# EAGLE library part 1PEEK09 (library con-odu_med)
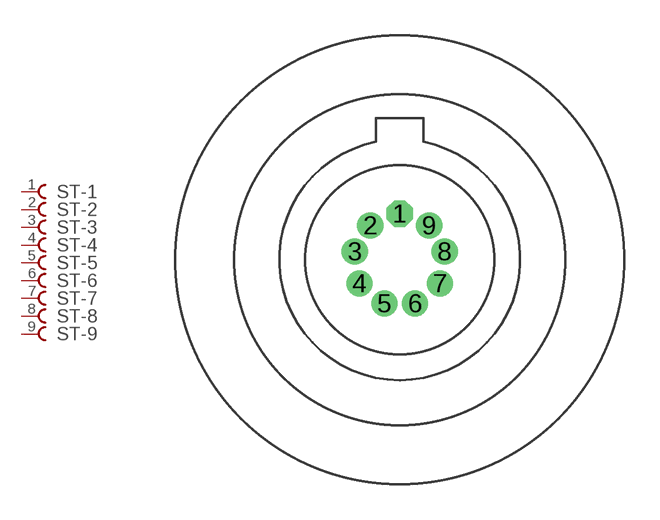
[diagram p3: symbol with the pads of 1PEEK09; footprint 1PEEK09]

Designator prefix ST; gates -1=KONTAKT -2=KONTAKT -3=KONTAKT -4=KONTAKT -5=KONTAKT -6=KONTAKT -7=KONTAKT -8=KONTAKT -9=KONTAKT

## 1PEEK09  [1PEEK09]
1  -1:P$1  pas
2  -2:P$1  pas
3  -3:P$1  pas
4  -4:P$1  pas
5  -5:P$1  pas
6  -6:P$1  pas
7  -7:P$1  pas
8  -8:P$1  pas
9  -9:P$1  pas

## Footprint 1PEEK09 (pad centres in mm)
drill 0.6 octagon: 1 0,1.95
drill 0.6: 2 -1.25,1.45; 3 -1.9,0.35; 4 -1.7,-1; 5 -0.65,-1.85; 6 0.65,-1.85; 7 1.7,-1; 8 1.9,0.35; 9 1.25,1.45